# EAGLE library part CON-FH19-45 (library zz-m-pad-2.1)
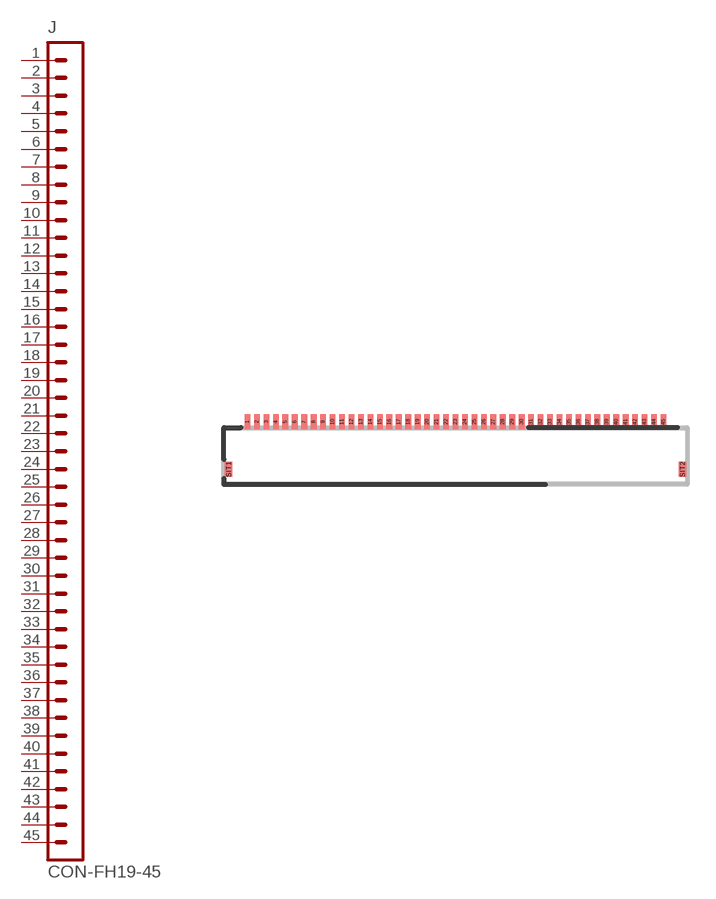
[diagram p138: symbol with the pads of CON-FH19-45; footprint CON-FH19-45]

Designator prefix J

## CON-FH19-45  [CON-FH19-45]
1  1  pas
2  2  pas
3  3  pas
4  4  pas
5  5  pas
6  6  pas
7  7  pas
8  8  pas
9  9  pas
10  10  pas
11  11  pas
12  12  pas
13  13  pas
14  14  pas
15  15  pas
16  16  pas
17  17  pas
18  18  pas
19  19  pas
20  20  pas
21  21  pas
22  22  pas
23  23  pas
24  24  pas
25  25  pas
26  26  pas
27  27  pas
28  28  pas
29  29  pas
30  30  pas
31  31  pas
32  32  pas
33  33  pas
34  34  pas
35  35  pas
36  36  pas
37  37  pas
38  38  pas
39  39  pas
40  40  pas
41  41  pas
42  42  pas
43  43  pas
44  44  pas
45  45  pas

## Footprint CON-FH19-45 (pad centres in mm)
smd 0.3 x 0.8: 1 -10.25,2.54; 2 -9.75,2.54; 3 -9.25,2.54; 4 -8.75,2.54; 5 -8.25,2.54; 6 -7.75,2.54; 7 -7.25,2.54; 8 -6.75,2.54; 9 -6.25,2.54; 10 -5.75,2.54; 11 -5.25,2.54; 12 -4.75,2.54; 13 -4.25,2.54; 14 -3.75,2.54; 15 -3.25,2.54; 16 -2.75,2.54; 17 -2.25,2.54; 18 -1.75,2.54; 19 -1.25,2.54; 20 -0.75,2.54; 21 -0.25,2.54; 22 0.25,2.54; 23 0.75,2.54; 24 1.25,2.54; 25 1.75,2.54; 26 2.25,2.54; 27 2.75,2.54; 28 3.25,2.54; 29 3.75,2.54; 30 4.25,2.54; 31 4.75,2.54; 32 5.25,2.54; 33 5.75,2.54; 34 6.25,2.54; 35 6.75,2.54; 36 7.25,2.54; 37 7.75,2.54; 38 8.25,2.54; 39 8.75,2.54; 40 9.25,2.54; 41 9.75,2.54; 42 10.25,2.54; 43 10.75,2.54; 44 11.25,2.54; 45 11.75,2.54
smd 0.4 x 0.8: SIT1 -11.25,0.04; SIT2 12.75,0.04